# Altium schematic symbol library SCH - MCU - ATSAM - MICROCHIP SAMD21E17L-MF QFN32.SchLib: 1 symbol
Pins are listed as number, name and electrical type; pins without a type are passive.

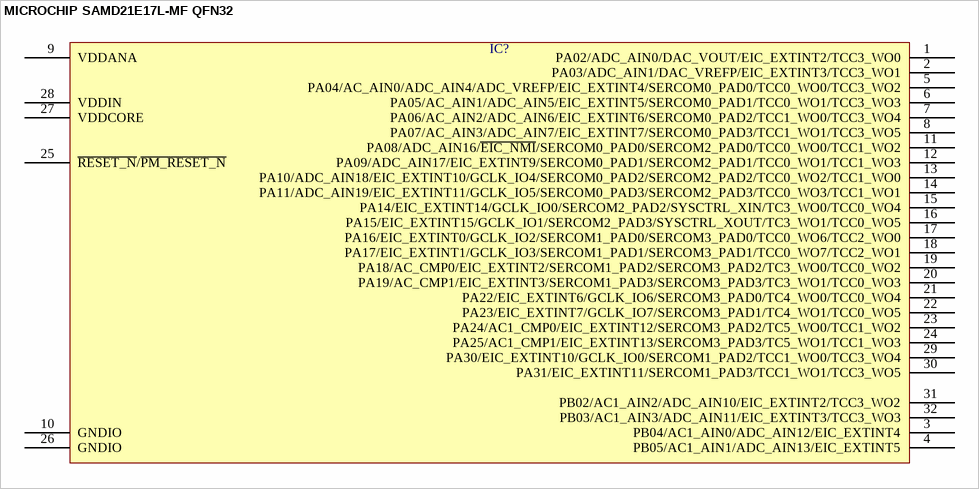
[diagram p0: symbol MICROCHIP SAMD21E17L-MF QFN32]

## MICROCHIP SAMD21E17L-MF QFN32
designator IC?  (value not drawn)
pins: 1 PA02/ADC_AIN0/DAC_VOUT/EIC_EXTINT2/TCC3_WO0, 2 PA03/ADC_AIN1/DAC_VREFP/EIC_EXTINT3/TCC3_WO1, 3 PB04/AC1_AIN0/ADC_AIN12/EIC_EXTINT4, 4 PB05/AC1_AIN1/ADC_AIN13/EIC_EXTINT5, 5 PA04/AC_AIN0/ADC_AIN4/ADC_VREFP/EIC_EXTINT4/SERCOM0_PAD0/TCC0_WO0/TCC3_WO2, 6 PA05/AC_AIN1/ADC_AIN5/EIC_EXTINT5/SERCOM0_PAD1/TCC0_WO1/TCC3_WO3, 7 PA06/AC_AIN2/ADC_AIN6/EIC_EXTINT6/SERCOM0_PAD2/TCC1_WO0/TCC3_WO4, 8 PA07/AC_AIN3/ADC_AIN7/EIC_EXTINT7/SERCOM0_PAD3/TCC1_WO1/TCC3_WO5, 9 VDDANA, 10 GNDIO, 11 PA08/ADC_AIN16/~{EIC_NMI}/SERCOM0_PAD0/SERCOM2_PAD0/TCC0_WO0/TCC1_WO2, 12 PA09/ADC_AIN17/EIC_EXTINT9/SERCOM0_PAD1/SERCOM2_PAD1/TCC0_WO1/TCC1_WO3, 13 PA10/ADC_AIN18/EIC_EXTINT10/GCLK_IO4/SERCOM0_PAD2/SERCOM2_PAD2/TCC0_WO2/TCC1_WO0, 14 PA11/ADC_AIN19/EIC_EXTINT11/GCLK_IO5/SERCOM0_PAD3/SERCOM2_PAD3/TCC0_WO3/TCC1_WO1, 15 PA14/EIC_EXTINT14/GCLK_IO0/SERCOM2_PAD2/SYSCTRL_XIN/TC3_WO0/TCC0_WO4, 16 PA15/EIC_EXTINT15/GCLK_IO1/SERCOM2_PAD3/SYSCTRL_XOUT/TC3_WO1/TCC0_WO5, 17 PA16/EIC_EXTINT0/GCLK_IO2/SERCOM1_PAD0/SERCOM3_PAD0/TCC0_WO6/TCC2_WO0, 18 PA17/EIC_EXTINT1/GCLK_IO3/SERCOM1_PAD1/SERCOM3_PAD1/TCC0_WO7/TCC2_WO1, 19 PA18/AC_CMP0/EIC_EXTINT2/SERCOM1_PAD2/SERCOM3_PAD2/TC3_WO0/TCC0_WO2, 20 PA19/AC_CMP1/EIC_EXTINT3/SERCOM1_PAD3/SERCOM3_PAD3/TC3_WO1/TCC0_WO3, 21 PA22/EIC_EXTINT6/GCLK_IO6/SERCOM3_PAD0/TC4_WO0/TCC0_WO4, 22 PA23/EIC_EXTINT7/GCLK_IO7/SERCOM3_PAD1/TC4_WO1/TCC0_WO5, 23 PA24/AC1_CMP0/EIC_EXTINT12/SERCOM3_PAD2/TC5_WO0/TCC1_WO2, 24 PA25/AC1_CMP1/EIC_EXTINT13/SERCOM3_PAD3/TC5_WO1/TCC1_WO3, 25 ~{RESET_N}/~{PM_RESET_N}, 26 GNDIO, 27 VDDCORE, 28 VDDIN, 29 PA30/EIC_EXTINT10/GCLK_IO0/SERCOM1_PAD2/TCC1_WO0/TCC3_WO4, 30 PA31/EIC_EXTINT11/SERCOM1_PAD3/TCC1_WO1/TCC3_WO5, 31 PB02/AC1_AIN2/ADC_AIN10/EIC_EXTINT2/TCC3_WO2, 32 PB03/AC1_AIN3/ADC_AIN11/EIC_EXTINT3/TCC3_WO3